# EAGLE library part 685119248123 (library USB3IO)
WR-COM Angled SMT Micro HDMI=>Code : Con_I-O_COM_Micro-HDMI_685119248123 <http://katalog.we-online.de/media/images/eican/Con_I-O_COM_Micro-HDMI_685119248123_pf2.jpg> Details see: http://katalog.we-online.de/en/em/685_119_248_123 Created 2014-07-09, Karrer Zheng 2014 (C) Würth Elektronik
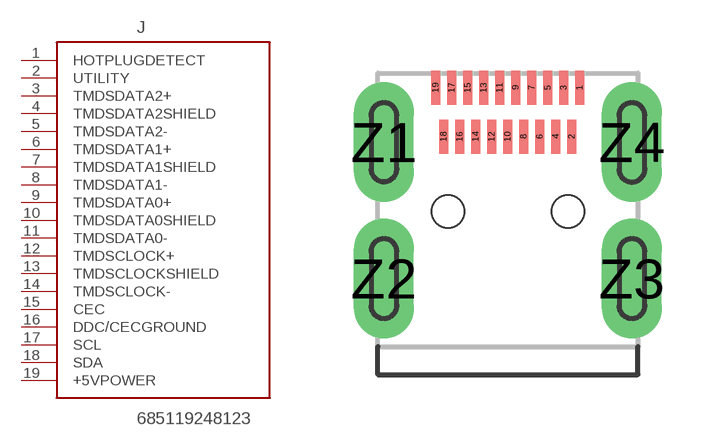
[diagram p79: symbol with the pads of 685119248123; footprint 685119248123]

Designator prefix J

## 685119248123  [685119248123]
1  HOTPLUGDETECT
2  UTILITY
3  TMDSDATA2+
4  TMDSDATA2SHIELD
5  TMDSDATA2-
6  TMDSDATA1+
7  TMDSDATA1SHIELD
8  TMDSDATA1-
9  TMDSDATA0+
10  TMDSDATA0SHIELD
11  TMDSDATA0-
12  TMDSCLOCK+
13  TMDSCLOCKSHIELD
14  TMDSCLOCK-
15  CEC
16  DDC/CECGROUND
17  SCL
18  SDA
19  +5VPOWER

## Footprint 685119248123 (pad centres in mm)
smd 0.23 x 0.85: 1 0,0; 2 -0.2,-1.225; 3 -0.4,0; 4 -0.6,-1.225; 5 -0.8,0; 6 -1,-1.225; 7 -1.2,0; 8 -1.4,-1.225; 9 -1.6,0; 10 -1.8,-1.225; 11 -2,0; 12 -2.2,-1.225; 13 -2.4,0; 14 -2.6,-1.225; 15 -2.8,0; 16 -3,-1.225; 17 -3.2,0; 18 -3.4,-1.225; 19 -3.6,0
drill 0.65 pad 1.5 long: Z1 -4.9,-1.365; Z2 -4.9,-4.775; Z3 1.3,-4.775; Z4 1.3,-1.365
hole 0.81 at -0.3,-3.095
hole 0.81 at -3.3,-3.095